# Altium schematic symbol library ERJ-1GNF1242C.SchLib: 1 symbol
Pins are listed as number, name and electrical type; pins without a type are passive.

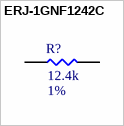
[diagram p0: symbol ERJ-1GNF1242C]

## ERJ-1GNF1242C
designator R?  Resistance: 12.4k  Tolerance: 1%  (hidden comment: ERJ-1GNF1242C)
Thick Film Resistors 0201 12.4Kohm 1% HalogenFree AEC-Q200; MFR: Panasonic; Power Rating: 1/20W; PN: ERJ-1GNF1242C; Footprint: RES0201; Package: 0201; ComponentLink1Description: Datasheet; ComponentLink1URL: https://www.mouser.ca/datasheet/2/315/AOA0000C304-1149620.pdf; Supplier 1: Mouser; Supplier Part Number 1: 667-ERJ-1GNF1242C
footprint RES0201 (A generic 0201 footprint)
pins: 1, 2